# EAGLE library part NUD3105DMT1G (library Board4You)
Inductive Load Driver
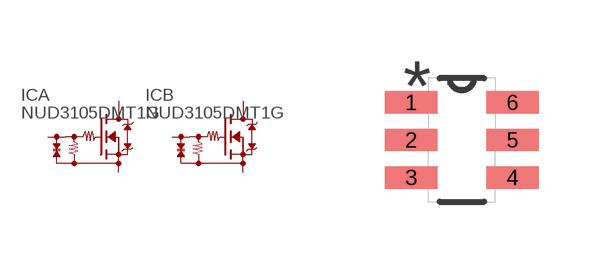
[diagram p7: symbol with the pads of SOT95P275X110-6N; footprint SOT95P275X110-6N]

Designator prefix IC; gates A=NUD3105DMT1G B=NUD3105DMT1G

## NUD3105DMT1G (MPN: NUD3105DMT1G; OC_FARNELL: 1880145; OC_NEWARK: 42K2469; PACKAGE: SC-74-6; SUPPLIER: ON Semiconductor)  [SOT95P275X110-6N]
1  A:SOURCE  in
2  A:GATE  in
3  B:DRAIN  out
4  B:SOURCE  in
5  B:GATE  in
6  A:DRAIN  out

## Footprint SOT95P275X110-6N (pad centres in mm)
smd 1.321 x 0.559: 1 -1.27,0.94; 2 -1.27,0; 3 -1.27,-0.94; 4 1.27,-0.94; 5 1.27,0; 6 1.27,0.94